# EAGLE library part ACS712 (library m_ic-signal)
Allegro Hall Effect current sensor IC
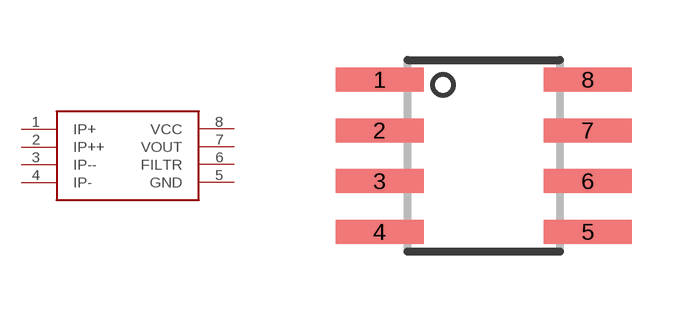
[diagram p0: symbol with the pads of SO08; footprint SO08]

Designator prefix IC

## ACS712  [SO08]
1  IP+
2  IP++
3  IP--
4  IP-
5  GND
6  FILTR
7  VOUT
8  VCC

## Footprint SO08 (pad centres in mm)
Small Outline Package 8 NS Package M08A
smd 2.2 x 0.6: 1 -2.604,1.905; 2 -2.604,0.635; 3 -2.604,-0.635; 4 -2.604,-1.905; 5 2.604,-1.905; 6 2.604,-0.635; 7 2.604,0.635; 8 2.604,1.905